# Altium footprint library SENSOR.PcbLib: 1 footprints
Each footprint in its own frame and in the unit in brackets; x right, y up, seen from the top. Pads: shape width x height; smd on the part's side, far side on the other; paste and mask are expansions set on the pad; w line width, h text height; cw(c..) or ccw(c..) is an arc to the next point about the centre after c.
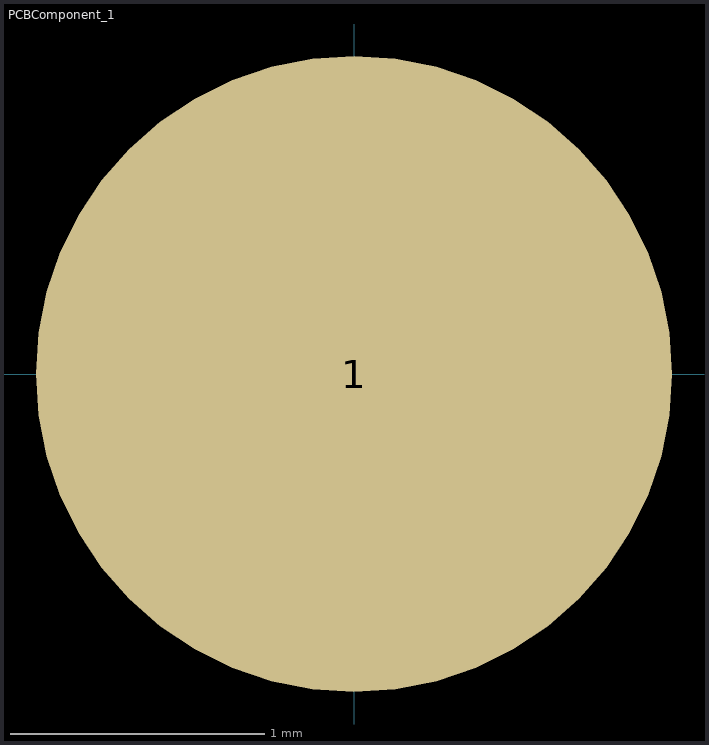
[diagram p0: the footprint, top view; thin cyan lines are the x and y axes]

## PCBComponent_1 [mm]
pads (1):
  round 2.5 smd paste-2.5 mask-2.5: 1(0,0)
Top Solder:
  circle w0.1: c0,0 r0.05
  circle w0.1: c0,0.4 r0.05
  circle w0.1: c0,0.8 r0.05
  circle w0.1: c0,-0.4 r0.05
  circle w0.1: c0,-0.8 r0.05
  circle w0.1: c0.4,0 r0.05
  circle w0.1: c0.4,0.4 r0.05
  circle w0.1: c0.4,0.8 r0.05
  circle w0.1: c0.4,-0.4 r0.05
  circle w0.1: c0.4,-0.8 r0.05
  circle w0.1: c-0.4,0 r0.05
  circle w0.1: c-0.4,0.4 r0.05
  circle w0.1: c-0.4,0.8 r0.05
  circle w0.1: c-0.4,-0.4 r0.05
  circle w0.1: c-0.4,-0.8 r0.05
  circle w0.1: c0.8,0.4 r0.05
  circle w0.1: c0.8,0 r0.05
  circle w0.1: c0.8,-0.4 r0.05
  circle w0.1: c-0.8,0.4 r0.05
  circle w0.1: c-0.8,0 r0.05
  circle w0.1: c-0.8,-0.4 r0.05